# EAGLE library part TP4056 (library tp4056)
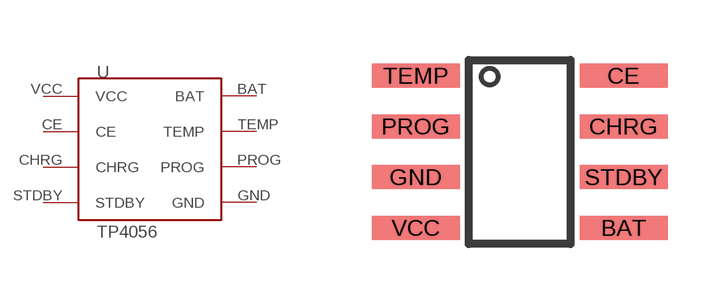
[diagram p0: symbol with the pads of TP4056; footprint TP4056]

Designator prefix U

## TP4056  [TP4056]
BAT  BAT
CE  CE
CHRG  CHRG  out
GND  GND
PROG  PROG
STDBY  STDBY  out
TEMP  TEMP
VCC  VCC  pwr

## Footprint TP4056 (pad centres in mm)
SMALL OUTLINE PACKAGE
smd 2.2 x 0.6: BAT 2.6,-1.905; CE 2.6,1.905; CHRG 2.6,0.635; GND -2.6,-0.635; PROG -2.6,0.635; STDBY 2.6,-0.635; TEMP -2.6,1.905; VCC -2.6,-1.905